# Altium footprint library TEN 40-xx1xN.PcbLib: 1 footprints
Each footprint in its own frame and in the unit in brackets; x right, y up, seen from the top. Pads: shape width x height; smd on the part's side, far side on the other; paste and mask are expansions set on the pad; w line width, h text height; cw(c..) or ccw(c..) is an arc to the next point about the centre after c.
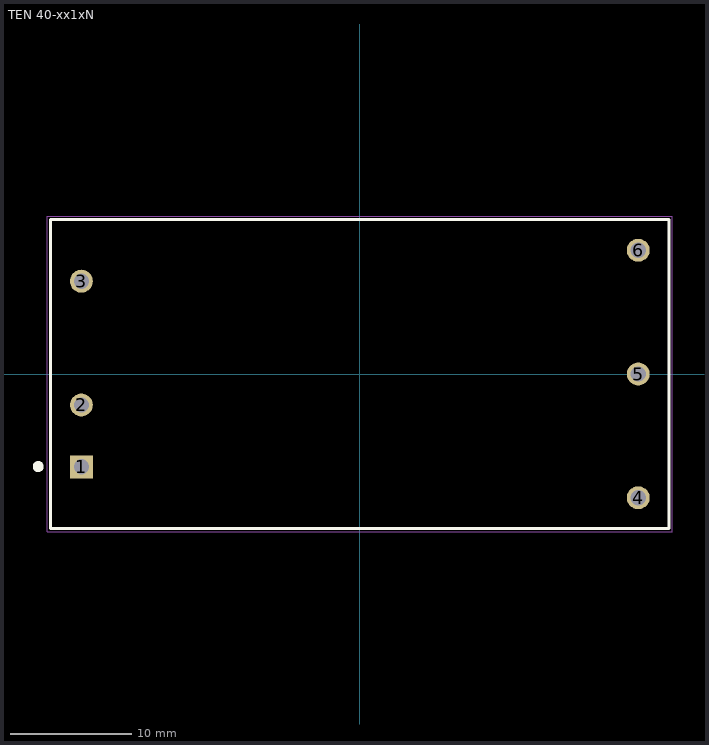
[diagram p0: the footprint, top view; thin cyan lines are the x and y axes]

## TEN 40-xx1xN [mm]
pads (6):
  rect 1.88x1.88 hole 1.25: 1(-22.86,-7.62)
  round 1.88 hole 1.25: 2(-22.86,-2.54) 3(-22.86,7.62) 4(22.86,-10.16) 5(22.86,0) 6(22.86,10.16)
Top Overlay:
  circle w0.5: c-26.4,-7.6 r0.2
  lines w0.254: -25.4,-12.7 25.4,-12.7 25.4,12.7 -25.4,12.7 -25.4,-12.7
Mechanical 15:
  lines w0.05: -25.65,-12.95 -25.65,12.95 25.65,12.95 25.65,-12.95 -25.65,-12.95
3D body "TEN 40-2411N.STEP": height 11.01, standoff -5.49, extent -25.4,-12.7 25.4,12.7